# Altium footprint library WL-OSEN.PcbLib: 2 footprints
Each footprint in its own frame and in the unit in brackets; x right, y up, seen from the top. Pads: shape width x height; smd on the part's side, far side on the other; paste and mask are expansions set on the pad; w line width, h text height; cw(c..) or ccw(c..) is an arc to the next point about the centre after c.
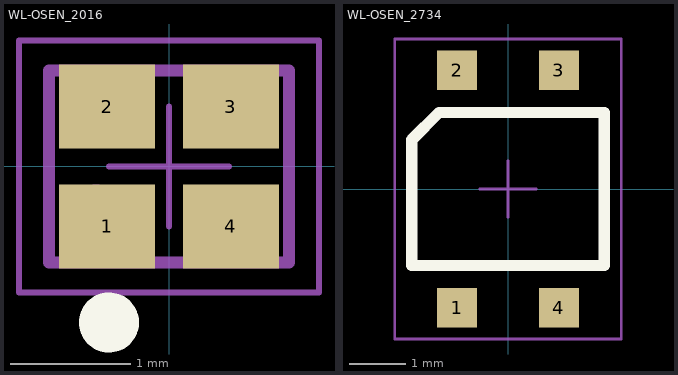
[diagram p0: the footprints below, top view; thin cyan lines are the x and y axes]

## WL-OSEN_2016 [mm] "Reflective Optical Sensor, body 2.00 x 1.60 mm"
height 0.75
pads (4):
  rect 0.8x0.7 smd: 1(-0.515,-0.5) 2(-0.515,0.5) 3(0.515,0.5) 4(0.515,-0.5)
Top Overlay:
  circle w0.25: c-0.5,-1.3 r0.125
Top Component Outline:
  circle w0.1: c-0.6,-0.4 r0.2
  lines w0.1: -1,-0.8 1,-0.8 1,0.8 -1,0.8 -1,-0.8
Top Courtyard:
  lines w0.05: -1.25,-1.05 1.25,-1.05 1.25,1.05 -1.25,1.05 -1.25,-1.05
Top Component Center:
  lines w0.05: -0.5,0 0.5,0 ; 0,-0.5 0,0.5
Top Designator (Mech19):
  text ".Designator" at -4.998,-0.333 h1
3D body "1692010961200.stp": height 0.77, standoff 0.02, extent -1,-0.8 1,0.8

## WL-OSEN_2734 [mm] "Reflective Optical Sensor, body 3.40 x 2.70 mm"
height 1.5
pads (4):
  rect 0.7x0.7 smd: 1(-0.9,-2.1) 2(-0.9,2.1) 3(0.9,2.1) 4(0.9,-2.1)
Top Overlay:
  lines w0.2: -1.7,-1.35 1.7,-1.35 1.7,1.35 -1.22,1.35 -1.7,0.87 -1.7,-1.35
Top Component Outline:
  lines w0.1: -1.7,-1.35 1.7,-1.35 1.7,1.35 -1.22,1.35 -1.7,0.87 -1.7,-1.35
Top Courtyard:
  lines w0.05: -2,-2.65 2,-2.65 2,2.65 -2,2.65 -2,-2.65
Top Component Center:
  lines w0.05: -0.5,0 0.5,0 ; 0,-0.5 0,0.5
Top Designator (Mech19):
  text ".Designator" at -4.998,-0.333 h1
3D body "1642730961200.stp": height 1.64, standoff 0.02, extent -1.7,-2.3 1.7,2.3